# EAGLE library part 1X6TERMINALBLOCK (library zortness)
1x6 Terminal Block at 0.01" (2.54mm) pitch DigiKey <http://www.digikey.com/product-detail/en/282834-5/A98336-ND/1153266>
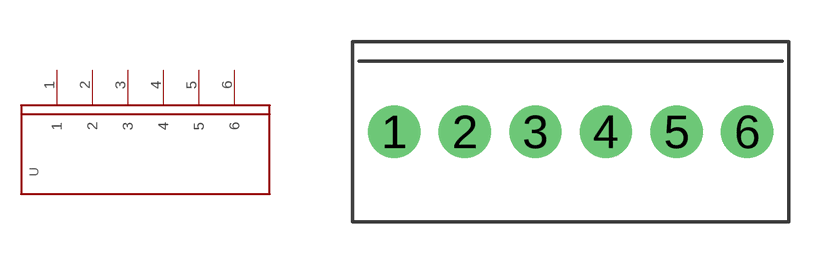
[diagram p10: symbol with the pads of 1X6TERMINALBLOCK; footprint 1X6TERMINALBLOCK]

Designator prefix -

## 1X6TERMINALBLOCK  [1X6TERMINALBLOCK]
1  1
2  2
3  3
4  4
5  5
6  6

## Footprint 1X6TERMINALBLOCK (pad centres in mm)
1x6 Terminal Block at 0.01" (2.54mm) pitch DigiKey <http://www.digikey.com/product-detail/en/282834-5/A98336-ND/1153266>
drill 1.016 pad 1.88: 1 -6.35,0; 2 -3.81,0; 3 -1.27,0; 4 1.27,0; 5 3.81,0; 6 6.35,0